# Altium schematic symbol library Pt1000.Schlib: 1 symbol
Pins are listed as number, name and electrical type; pins without a type are passive.

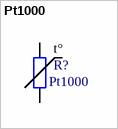
[diagram p0: symbol Pt1000]

## Pt1000
designator R?
Value: 1000; Назначение: Термометр сопротивления; Наименование: Pt1000
footprint Pt100
pins: 1, 2
text: t°